# Altium schematic symbol library CON_DIVERSOS.SchLib: 3 symbols
Pins are listed as number, name and electrical type; pins without a type are passive.

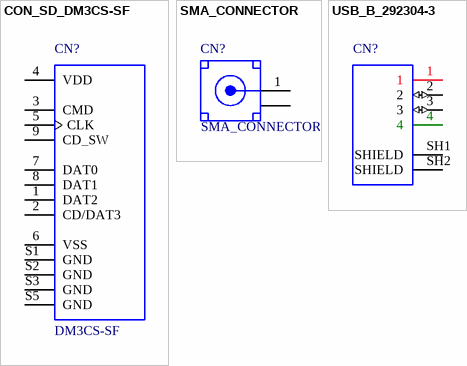
[diagram p0: symbols CON_SD_DM3CS-SF to USB_B_292304-3]

## CON_SD_DM3CS-SF
designator CN?, comment DM3CS-SF
Conn Micro SD Card HDR 8 POS 1.1mm Solder RA SMD Embossed T/R 0.5A; MF: Hirose; Availability: Unavailable; Package: None; MP: DM3CS-SF; SnapEDA_Link: https://www.snapeda.com/parts/DM3CS-SF/Hirose%20Electric%20Co%20Ltd/view-part/?ref=snap; Price: None; Value: *
footprint CON_SD_HRS_DM3CS-SF (CON SD CARD SMD)
pins: 1 DAT2, 2 CD/DAT3, 3 CMD, 4 VDD, 5 CLK, 6 VSS, 7 DAT0, 8 DAT1, 9 CD_SW, S1 GND, S2 GND, S3 GND, S5 GND

## SMA_CONNECTOR
designator CN?
CONNECTOR, SMA, ANTENNA; SVHC: No SVHC _19-Dec-2012_; For Use With: Antenna; Kit Contents: SMA Connector; MF: LPRS; Package: None; MP: SMA CONNECTOR; SnapEDA_Link: https://www.snapeda.com/parts/SMA%20CONNECTOR/LPRS/view-part/?ref=snap; Price: None; Availability: Unavailable; Value: *
footprint LPRS_SMA_CON
pins: 1 SIG, 2 GND, 3 GND, 4 GND, 5 GND

## USB_B_292304-3
designator CN?  (value not drawn)
USB B R/A RECP CONNECTOR,LEAD FREE; Number_of_Positions: 4; MF: TE Connectivity; Centerline_Pitch: 2.5 mm[.098 in]; TE_purchase_URL: https://www.te.com/usa-en/product-292304-3.html?te_bu=Cor&te_type=disp&te_campaign=seda_glo_cor-seda-global-disp-prtnr-fy19-seda-model-bom-cta_sma-317_1&elqCampaignId=32493; Availability: Unavailable; Product_Type: Connector; Package: None; EU_RoHS_Compliance: Compliant; SnapEDA_Link: https://www.snapeda.com/parts/292304-3/TE%20Connectivity%20AMP%20Connectors/view-part/?ref=snap; MP: 292304-3; Price: None; Value: *
footprint TE_292304-3_USB_B (CONECTOR USB TIPO B)
pins: 1 (power), 2 (io), 3 (io), 4 (power), SH1 SHIELD, SH2 SHIELD